# Altium schematic symbol library TestSCH.SchLib: 2 symbols
Pins are listed as number, name and electrical type; pins without a type are passive.

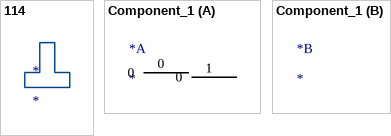
[diagram p0: symbols 114 to Component_1]

## 114
designator *

## Component_1
designator *
footprint Model Name (Footprint not found)
part A pins: 0, 1 0